# Altium schematic symbol library 电源管理.SchLib: 18 symbols
Pins are listed as number, name and electrical type; pins without a type are passive.

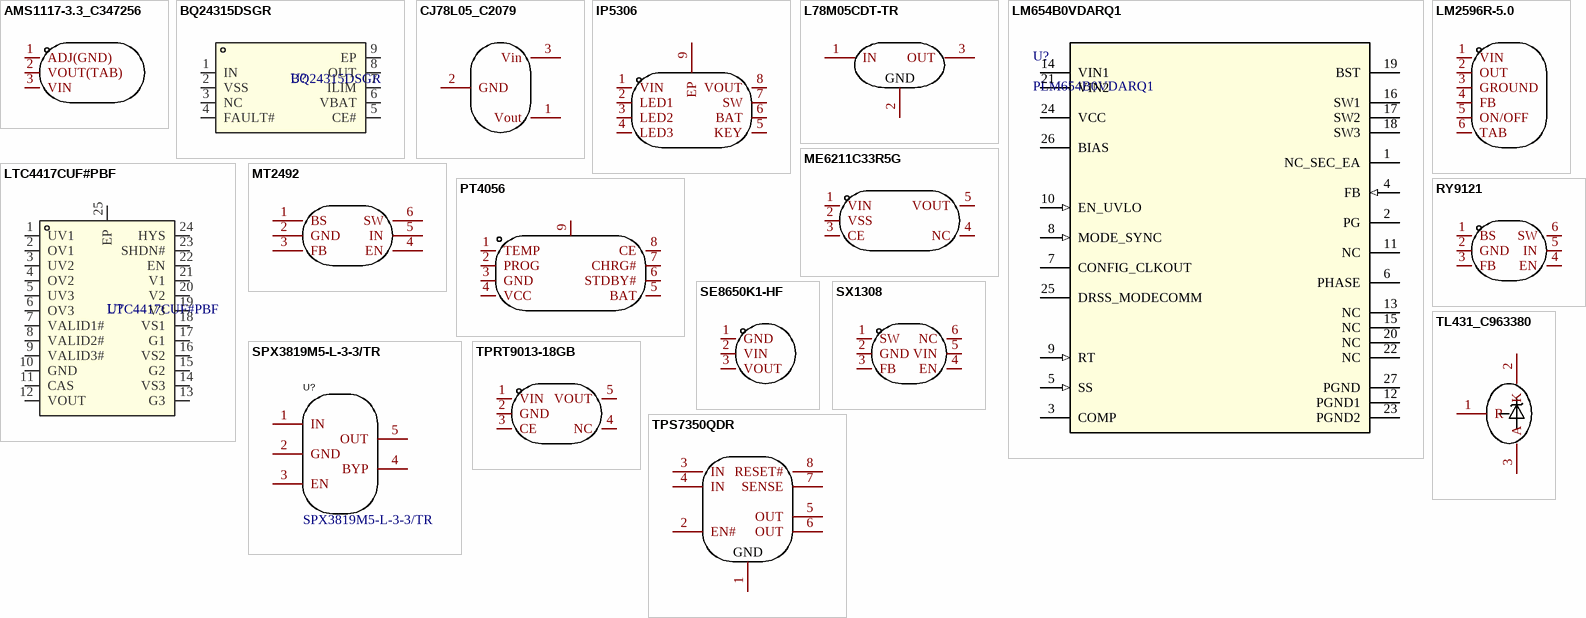
[diagram p0: symbols AMS1117-3.3_C347256 to TPS7350QDR]

## AMS1117-3.3_C347256
designator U??  (value not drawn)
Manufacturer: UMW(友台半导体); Add into BOM: yes; Output Type: 固定; Output Polarity: 正; Number of Outputs: 1; Maximum Input Voltage: 18V; Output Voltage: 3.3V; Dropout Voltage: 1.3V@(1A); Output Current: 1A; Power Supply Rejection Ratio (PSRR): 60dB@(120Hz); Name: AMS1117-3.3; Symbol: AMS1117-3.3_C347256; Device: AMS1117-3.3_C347256; LCSC Part Name: 输入18V 输出3.3V 1A; Supplier Part: C347256; Manufacturer Part: AMS1117-3.3; Supplier Footprint: SOT-89; JLCPCB Part Class: Extended Part; Datasheet: https://atta.szlcsc.com/upload/public/pdf/source/20211011/50CC665C22E3A66C08379A4A74BDA25C.pdf; Supplier: LCSC; Convert to PCB: yes
footprint SOT-89_L4.5-W2.5-P1.50-LS4.2-BR
3D model SOT-89-3_L4.3-W2.5-H1.6-LS4.1-P1.50
pins: 1 ADJ(GND), 2 VOUT(TAB), 3 VIN

## BQ24315DSGR
designator U?
BQ24315 过压和过流保护 IC 和锂离子充电器前端保护 IC; Manufacturer: TI(德州仪器); SEEX_AUTHOR: ref42; SEEX_COMPONENT_ID: C330400; SEEX_PROJECT_URL: https://github.com/ref42/seex; Footprint: WSON-8_L2.0-W2.0-P0.65-BL-EP; Datasheet: https://www.ti.com/cn/lit/gpn/bq24315; JLCPCB Part Class: Extended Part; LCSC Part Name: PH0.5接触面在同面; Manufacturer Part: BQ24315DSGR; Supplier: LCSC; Supplier Footprint: WSON-8-EP(2x2); Supplier Part: C330400
footprint WSON-8_L2.0-W2.0-P0.65-BL-EP (DFN-8-EP(2x2); DFN-8(2x2); WSON-8-EP; WSON-8(3x3); WSON-8)
pins: 1 IN, 2 VSS, 3 NC, 4 FAULT#, 5 CE#, 6 VBAT, 7 ILIM, 8 OUT, 9 EP

## CJ78L05_C2079
designator U??  (value not drawn)
Manufacturer: CJ(江苏长电/长晶); Add into BOM: yes; Output Type: 固定; Output Polarity: 正; Number of Outputs: 1; Maximum Input Voltage: 30V; Output Voltage: 5V; Dropout Voltage: 1.7V@(40mA); Output Current: 100mA; Name: CJ78L05; Symbol: CJ78L05; Device: CJ78L05_C2079; LCSC Part Name: 正 Vin=30V Vout=5V 100mA; Supplier Part: C2079; Manufacturer Part: CJ78L05; Supplier Footprint: SOT-89-3L; JLCPCB Part Class: Extended Part; Datasheet: https://atta.szlcsc.com/upload/public/pdf/source/20171013/C2079_15078985046641032894.pdf; Supplier: LCSC; Convert to PCB: yes
footprint SOT-89-3_L4.5-W2.5-P1.50-LS4.2-BR
3D model SOT-89-3_L4.3-W2.5-H1.6-LS4.1-P1.50
pins: 1 Vout, 2 GND, 3 Vin

## IP5306
designator U??  (value not drawn)
Manufacturer: INJOINIC(英集芯); Add into BOM: yes; Symbol: IP5306; Device: IP5306; LCSC Part Name: IP5306; Supplier Part: C181692; Manufacturer Part: IP5306; Supplier Footprint: ESOP-8; JLCPCB Part Class: Extended Part; Datasheet: https://atta.szlcsc.com/upload/public/pdf/source/20190627/C384572_9925B3DDC4041BC6108E5AB46A2A0AB1.pdf; Supplier: LCSC; Convert to PCB: yes
footprint ESOP-8_L4.9-W3.9-P1.27-LS6.0-BL-EP
pins: 1 VIN, 2 LED1, 3 LED2, 4 LED3, 5 KEY, 6 BAT, 7 SW, 8 VOUT, 9 EP

## L78M05CDT-TR
designator U??  (value not drawn)
Manufacturer: ST(意法半导体); Add into BOM: yes; Output Type: 固定; Output Polarity: 正; Number of Outputs: 1; Maximum Input Voltage: 35V; Output Voltage: 5V; Output Current: 500mA; Power Supply Rejection Ratio (PSRR): 62dB@(120Hz); Name: L78M05CDT-TR; Symbol: L78M05CDT-TR; Device: L78M05CDT-TR; LCSC Part Name: 正 Vin=35V Vout=5V 500mA 62dB@(120Hz); Supplier Part: C55509; Manufacturer Part: L78M05CDT-TR; Supplier Footprint: TO-252-2(DPAK); JLCPCB Part Class: Extended Part; Datasheet: https://atta.szlcsc.com/upload/public/pdf/source/20201012/C880081_9A302D558B171428CB016C513D9594F4.pdf; Supplier: LCSC; Convert to PCB: yes; Dropout Voltage: -
footprint TO-252-3_L6.5-W5.8-P4.58-BL
3D model TO-252-3_L6.5-W5.8-P4.58-BL
pins: 1 IN, 2 GND, 3 OUT

## LM654B0VDARQ1
designator U?, comment PLM654B0VDARQ1
Automotive, 36Vin, 20A synchronous step-down converter for high efficiency and low EMC 26-WQFN-FCRLF -40 to 150; Manufacturer_Name: Texas Instruments; TYPE: TYPE; RefDes: RefDes; Copyright: Copyright (C) 2026 Ultra Librarian. All rights reserved.; Manufacturer_Part_Number: PLM654B0VDARQ1
footprint VDA0026A-MFG
pins: 1 NC_SEC_EA, 2 PG (oc), 3 COMP, 4 FB (in), 5 SS (in), 6 PHASE, 7 CONFIG_CLKOUT, 8 MODE_SYNC (in), 9 RT (in), 10 EN_UVLO (in), 11 NC, 12 PGND1 (power), 13 NC, 14 VIN1 (power), 15 NC, 16 SW1, 17 SW2, 18 SW3, 19 BST, 20 NC, 21 VIN2 (power), 22 NC, 23 PGND2 (power), 24 VCC (power), 25 DRSS_MODECOMM, 26 BIAS, 27 PGND (power)

## LM2596R-5.0
designator U??  (value not drawn)
Manufacturer: HTC; Add into BOM: yes; Function: 降压型; Name: LM2596R-5.0; Symbol: LM2596R-5.0; Device: LM2596R-5.0; LCSC Part Name: 降压型; Supplier Part: C77782; Manufacturer Part: LM2596R-5.0; Supplier Footprint: TO-263-5; JLCPCB Part Class: Extended Part; Datasheet: https://atta.szlcsc.com/upload/public/pdf/source/20161217/1481939130205.pdf; Supplier: LCSC; Convert to PCB: yes; Synchronous Rectification: -; Number of Outputs: -; Topology: -; Input Voltage: -; Output Current (Max): -; Switching Frequency: -
footprint TO-263-5_L10.2-W8.6-P1.70-LS14.4-TL
3D model TO-263-5-5P_L10.2-W8.7-H4.5-LS14.4-P1.70
pins: 1 VIN, 2 OUT, 3 GROUND, 4 FB, 5 ON/OFF, 6 TAB

## LTC4417CUF#PBF
designator U?
连接三个有效电源之一到公共输出端，基于引脚分配定义优先级，V1 优先级最高，V3 最低。当电源电压在过压 (OV) 和欠压 (UV) 窗口内持续至少 256ms 时被定义为有效。若最高优先级有效输入超出 OV/UV 窗口，该通道立即断开，次高优先级有效输入连接到公共输出。两个或多个可级联以实现三个以上输入之间的切换。集成快速非重叠开关电路，防止反向和交叉传导，同时最小化输出下垂。栅极驱动器包括 6V 钳位以保护外部 MOSFET。受控输出斜坡功能可最小化启动浪涌电流。开漏 VALID 输出指示输入电源已在; Manufacturer: ADI(亚德诺); SEEX_AUTHOR: ref42; SEEX_COMPONENT_ID: C688502; SEEX_PROJECT_URL: https://github.com/ref42/seex; Footprint: QFN-24_L4.0-W4.0-P0.50-TL-EP2.5; Datasheet: https://item.szlcsc.com/datasheet/LTC4417CUF%2523PBF/719210.html; JLCPCB Part Class: Extended Part; LCSC Part Name: 确定了优先级的 PowerPath™ 控制器; Manufacturer Part: LTC4417CUF#PBF; Supplier: LCSC; Supplier Footprint: QFN-24-EP(4x4); Supplier Part: C688502
footprint QFN-24_L4.0-W4.0-P0.50-TL-EP2.5 (QFN-24(4x4); QFN-24-EP(4x4); -; VQFN-24(4x4); TQFN-24(4x4); QFN-24_EP(4x4); QFN-24; TQFN-24AL(4x4); WQFN-24(4x4); TQFN-24-EP(4x4); VQFN-24-EP(4x4); MLF-24(4x4); SMT-24(4x4); QFN-24-EP; VQFN-24; QFN-24_L4.0-W4.0-P0.50-TL-EP2.5; QFN-24_L4.0-W4.0-P0.50; QFN24_L4.0-W4.0-P0.50-EP2.5; EQFN-24_L4.0-W4.0-P0.50-BL-EP; QFN-24_L4.0-W4.0-P0.50-EP2.4; QFN-24_L4.0-W4.0-P0.50-EP2.5; VFQFN-24-EP; UFQFN-24-EP; TQFN-24_L4.0-W4.0-P0.50-BL-EP; QFN24_4X4; QFN24; QNF24; QFN-24_4.0X4.0; QFN-24_L4.0-W4.0-P0.50-BL-EP2.8; VFQFPN-24; VQFN024V4040; WQFN-24L 4x4; QFN24-4*4; PQFN-24(4x4); QFN-24_4x4x05P; QFN28-4*4; QFN24-5X5; PQFN-24; QFN24-4*4-0.5; QFN24&#65288;4*4mm&#65289;; QFN-24_4X4; QFN24_4x4; TQFN-24_4X4; MLCP-24(4x4); QFN-24_4X4X05P; WQFN-24_4X4; QFN-24_4X4mm; QFN-24_4x4)
pins: 1 UV1, 2 OV1, 3 UV2, 4 OV2, 5 UV3, 6 OV3, 7 VALID1#, 8 VALID2#, 9 VALID3#, 10 GND, 11 CAS, 12 VOUT, 13 G3, 14 VS3, 15 G2, 16 VS2, 17 G1, 18 VS1, 19 V3, 20 V2, 21 V1, 22 EN, 23 SHDN#, 24 HYS, 25 EP

## ME6211C33R5G
designator U??  (value not drawn)
Manufacturer: MICRONE(南京微盟); Add into BOM: yes; Output Type: 固定; Output Polarity: 正; Number of Outputs: 1; Maximum Input Voltage: 6.5V; Output Voltage: 3.3V; Dropout Voltage: 260mV@(200mA); Output Current: 300mA; Power Supply Rejection Ratio (PSRR): 70dB@(1kHz); Name: ME6211C33R5G; Symbol: ME6211C33R5G; Device: ME6211C33R5G; LCSC Part Name: 输入6.5V 输出3.3V 300mA; Supplier Part: C235316; Manufacturer Part: ME6211C33R5G; Supplier Footprint: SOT-353; JLCPCB Part Class: Extended Part; Datasheet: https://atta.szlcsc.com/upload/public/pdf/source/20180719/C235316_A35490DF9B0686070E5536ED6E1BEA47.pdf; Supplier: LCSC; Convert to PCB: yes
footprint SOT-353_L2.1-W1.3-P0.65-LS2.3-BL
3D model SOT-353-5P_L2.0-W1.3-H1.1-LS2.0-P0.65
pins: 1 VIN, 2 VSS, 3 CE, 4 NC, 5 VOUT

## MT2492
designator U??  (value not drawn)
Manufacturer: 西安航天民芯; Add into BOM: yes; Function: 降压型; Name: MT2492; Symbol: MT2492; Device: MT2492; LCSC Part Name: 降压型; Supplier Part: C89358; Manufacturer Part: MT2492; Supplier Footprint: SOT-23-6; JLCPCB Part Class: Extended Part; Datasheet: https://atta.szlcsc.com/upload/public/pdf/source/20221209/5C81DA9662873D3A116170FFBF63E49D.pdf; Supplier: LCSC; Convert to PCB: yes; Synchronous Rectification: -; Number of Outputs: -; Topology: -; Input Voltage: -; Output Current (Max): -; Switching Frequency: -
footprint SOT-23-6_L2.9-W1.6-P0.95-LS2.8-BL
3D model SOT-23-6_L2.9-W1.6-H1.5-LS2.8-P0.95
pins: 1 BS, 2 GND, 3 FB, 4 EN, 5 IN, 6 SW

## PT4056
designator U??  (value not drawn)
Manufacturer: PUOLOP(迪浦); Add into BOM: yes; Name: PT4056; Symbol: PT4056; Device: PT4056; LCSC Part Name: PT4056; Supplier Part: C351416; Manufacturer Part: PT4056; Supplier Footprint: ESOP-8; JLCPCB Part Class: Extended Part; Datasheet: https://atta.szlcsc.com/upload/public/pdf/source/20190109/C351416_DFA3E3A16E57B5EE7C864ABFFC651A64.pdf; Supplier: LCSC; Convert to PCB: yes
footprint ESOP-8_L4.9-W3.9-P1.27-LS6.0-BL-EP
3D model ESOP-8_L4.9-W3.9-H1.6-LS6.0-P1.27
pins: 1 TEMP, 2 PROG, 3 GND, 4 VCC, 5 BAT, 6 STDBY#, 7 CHRG#, 8 CE, 9

## RY9121
designator U??  (value not drawn)
Manufacturer: RYCHiP(蕊源); Add into BOM: yes; Name: RY9121; Symbol: RY9121; Device: RY9121; LCSC Part Name: RY9121; Supplier Part: C2887854; Manufacturer Part: RY9121; Supplier Footprint: SOT23-6; JLCPCB Part Class: Extended Part; Datasheet: https://atta.szlcsc.com/upload/public/pdf/source/20210827/DF70F408E950B831DE30F072EB02455F.pdf; Supplier: LCSC; Convert to PCB: yes
footprint SOT-23-6_L2.9-W1.6-P0.95-LS2.8-BR
3D model SOT-23-6_L2.9-W1.6-H1.5-LS2.8-P0.95
pins: 1 BS, 2 GND, 3 FB, 4 EN, 5 IN, 6 SW

## SE8650K1-HF
designator U??  (value not drawn)
Manufacturer: SEAWARD(思旺); Add into BOM: yes; Output Type: 固定; Output Polarity: 正; Number of Outputs: 1; Maximum Input Voltage: 80V; Output Voltage: 5V; Quiescent Current (Ground Current): 2uA; Power Supply Rejection Ratio (PSRR): 85dB; Name: SE8650K1-HF; Symbol: SE8650K1-HF; Device: SE8650K1-HF; LCSC Part Name: SE8650K1-HF; Supplier Part: C2838442; Manufacturer Part: SE8650K1-HF; Supplier Footprint: SOT-89-3; JLCPCB Part Class: Extended Part; Datasheet: https://atta.szlcsc.com/upload/public/pdf/source/20220321/29E2D6E65CE42ECBE76E8EC1E13AE65C.pdf; Supplier: LCSC; Convert to PCB: yes
footprint SOT-89-3_L4.5-W2.5-P1.50-LS4.2-BR
3D model SOT-89-3_L4.3-W2.5-H1.6-LS4.1-P1.50
pins: 1 GND, 2 VIN, 3 VOUT

## SPX3819M5-L-3-3/TR
designator U?
Manufacturer: MaxLinear; Add into BOM: yes; Output Type: 固定; Output Polarity: 正; Number of Outputs: 1; Maximum Input Voltage: 16V; Output Voltage: 3.3V; Dropout Voltage: 700mV@(500mA); Output Current: 500mA; Power Supply Rejection Ratio (PSRR): 70dB; Name: SPX3819M5-L-3-3/TR; Symbol: SPX3819M5-L-3-3/TR; Device: SPX3819M5-L-3-3/TR; LCSC Part Name: SPX3819M5-L-3-3/TR; Supplier Part: C9055; Manufacturer Part: SPX3819M5-L-3-3/TR; Supplier Footprint: SOT-23-5; JLCPCB Part Class: Extended Part; Datasheet: https://atta.szlcsc.com/upload/public/pdf/source/20160421/1461205045150.pdf; Supplier: LCSC; Convert to PCB: yes
footprint SOT-23-5_L3.0-W1.7-P0.95-LS2.8-BL
pins: 1 IN, 2 GND, 3 EN, 4 BYP, 5 OUT

## SX1308
designator U??  (value not drawn)
Manufacturer: SX(硕芯科技); Add into BOM: yes; Function: 升压型; Input Voltage: 2V~24V; Output Voltage: 28V; Switching Frequency: 1.2MHz; Synchronous Rectification: 否; Number of Outputs: 1; Topology: 升压式; Switch tube (built-in/external): 内置; Symbol: SX1308; Device: SX1308; LCSC Part Name: SX1308; Supplier Part: C78162; Manufacturer Part: SX1308; Supplier Footprint: SOT-23-6; JLCPCB Part Class: Extended Part; Datasheet: https://atta.szlcsc.com/upload/public/pdf/source/20160920/1474356679185.pdf; Supplier: LCSC; Convert to PCB: yes; Output Current (Max): -
footprint SOT-23-6_L2.9-W1.6-P0.95-LS2.8-BL
pins: 1 SW, 2 GND, 3 FB, 4 EN, 5 VIN, 6 NC

## TL431_C963380
designator U??  (value not drawn)
Manufacturer: JSMSEMI(杰盛微); Name: TL431; Add into BOM: yes; Reference Type: 并联; Output Type: 可调; Input Voltage: 37V; Output Voltage: 2.5V~36V; Temperature Coefficient: 50ppm/℃; Minimum Cathode Current for Regulation: 1mA; Dynamic Impedance: 150mΩ; Symbol: TL431_C963380; Device: TL431_C963380; LCSC Part Name: 并联 2.5V~36V; Supplier Part: C963380; Manufacturer Part: TL431; Supplier Footprint: SOT-23; JLCPCB Part Class: Extended Part; Supplier: LCSC; Convert to PCB: yes; Output Current: -; Tolerance: -; Supply Current: -; Noise - 1/10Hz to 10Hz: -; Noise - 10Hz to 10kHz: -; Operating Temperature: -25℃~+85℃@(Topr)
footprint SOT-23-3_L2.9-W1.4-P1.90-LS2.6-BR
3D model SOT-23-3_L2.9-W1.4-P1.90-LS2.6-BR
pins: 1 R, 2 K, 3 A

## TPRT9013-18GB
designator U??  (value not drawn)
Manufacturer: TECH PUBLIC(台舟); Add into BOM: yes; Symbol: TPRT9013-18GB; Device: TPRT9013-18GB; LCSC Part Name: TPRT9013-18GB; Supplier Part: C708766; Manufacturer Part: TPRT9013-18GB; Supplier Footprint: SOT-23-5; JLCPCB Part Class: Extended Part; Datasheet: https://atta.szlcsc.com/upload/public/pdf/source/20210810/FFB4315C2654E352EC83CD329E659819.pdf; Supplier: LCSC; Convert to PCB: yes; Output Type: -
footprint TSOT-23-5_L2.9-W1.6-P0.95-LS2.8-BL
pins: 1 VIN, 2 GND, 3 CE, 4 NC, 5 VOUT

## TPS7350QDR
designator U??  (value not drawn)
Manufacturer: TI(德州仪器); Add into BOM: yes; Output Type: 固定; Output Polarity: 正; Number of Outputs: 1; Maximum Input Voltage: 10V; Output Voltage: 5V; Dropout Voltage: 230mV@(500mA); Output Current: 500mA; Power Supply Rejection Ratio (PSRR): 53dB@(120Hz); Name: TPS7350QDR; Symbol: TPS7350QDR; Device: TPS7350QDR; LCSC Part Name: 正 Vin=10V Vout=5V 500mA 53dB@(120Hz); Supplier Part: C12102; Manufacturer Part: TPS7350QDR; Supplier Footprint: SOIC-8-150mil; JLCPCB Part Class: Extended Part; Datasheet: https://atta.szlcsc.com/upload/public/pdf/source/20140227/1457706994962.pdf; Supplier: LCSC; Convert to PCB: yes
footprint SOIC-8_L4.9-W3.9-P1.27-LS6.0-BL
3D model SOIC-8_L4.9-W3.9-H1.7-LS6.0-P1.27
pins: 1 GND, 2 EN#, 3 IN, 4 IN, 5 OUT, 6 OUT, 7 SENSE, 8 RESET#